# Altium integrated library TI Data Converters Analog to Digital Converter.IntLib: 2197 symbols (part 141 of 168)
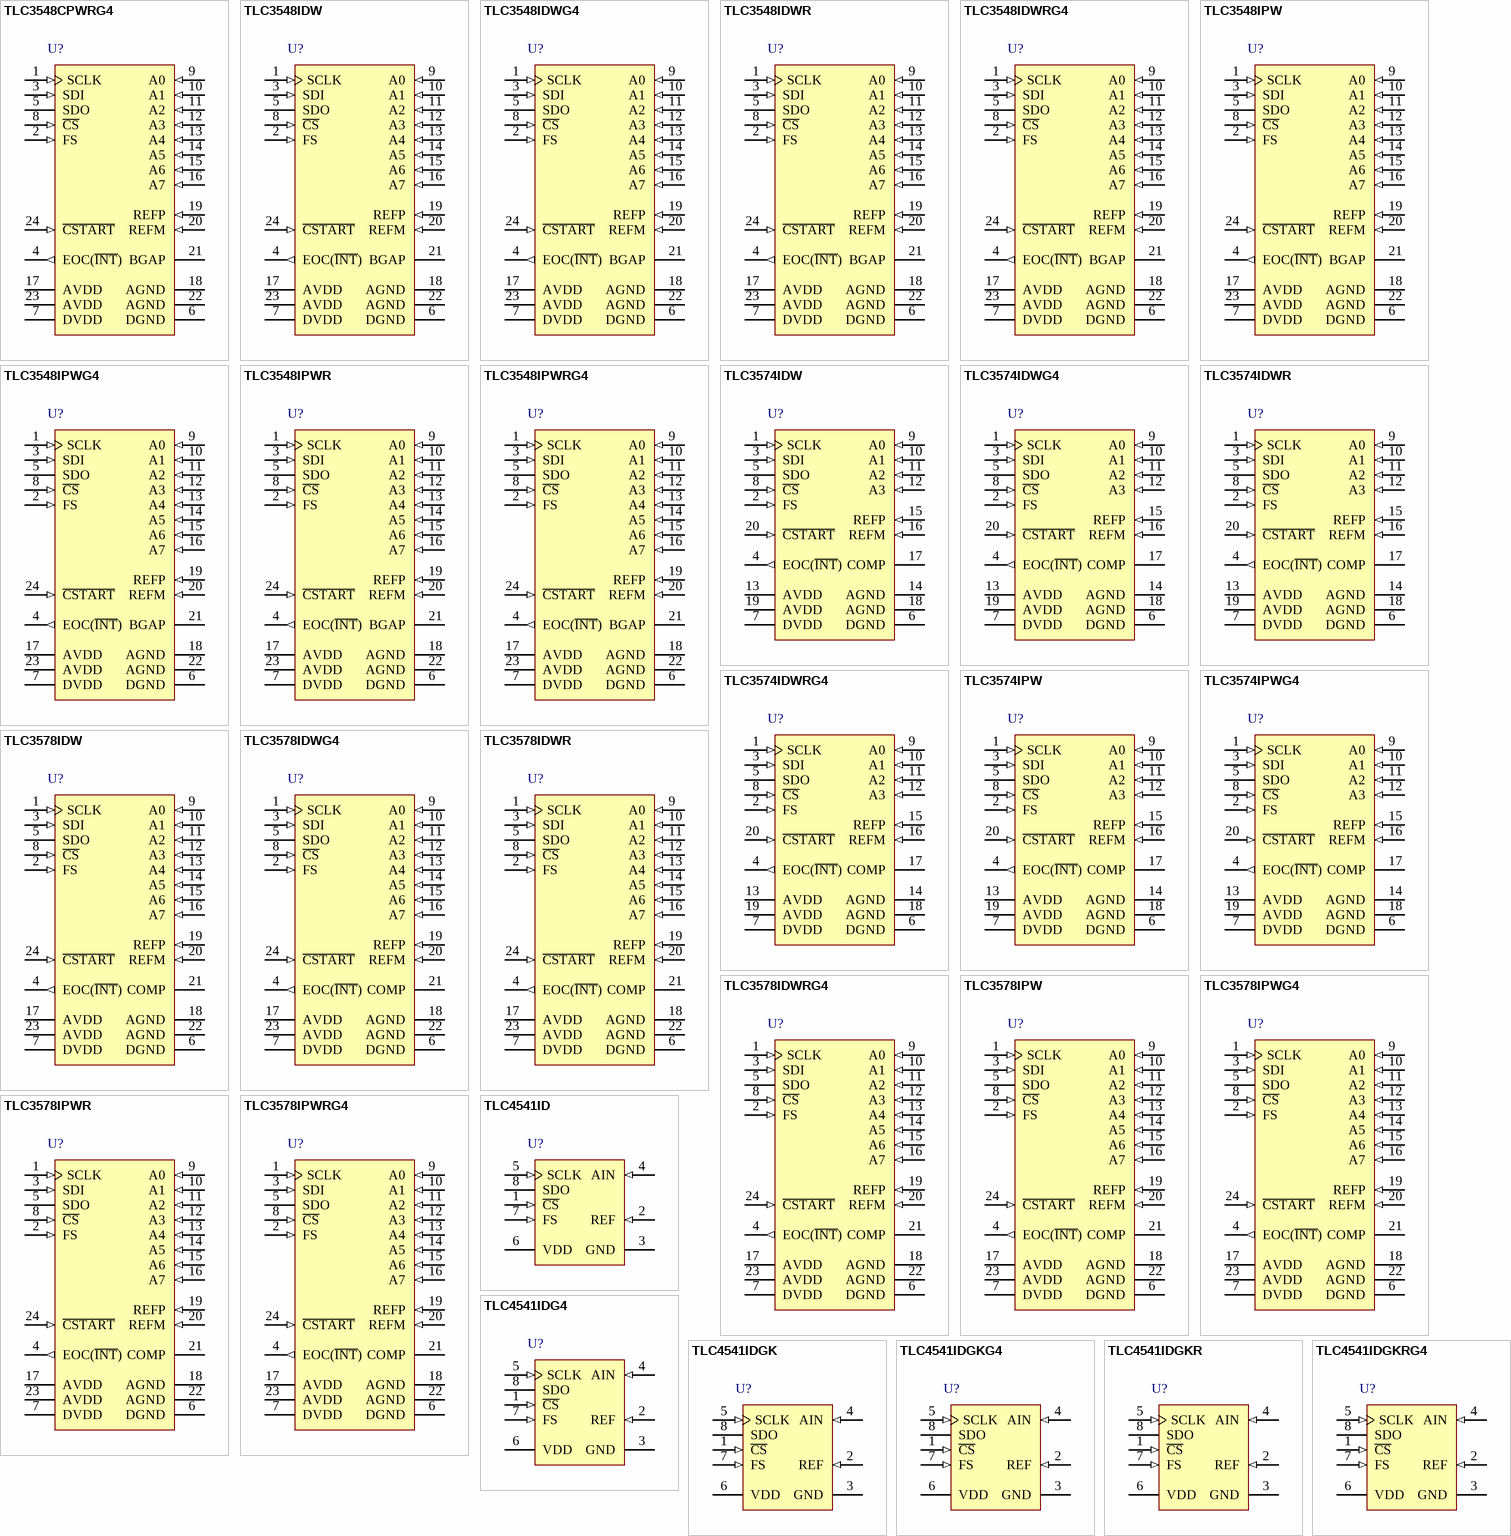
[diagram p266: symbols TLC3548CPWRG4 to TLC4541IDGKRG4]

## TLC3548CPWRG4
designator U?
14-Bit, 5 V, 200 kSPS, 8-Channel Unipolar ADC, 0 to 70 degC, 24-pin SOP (PW24), Green (RoHS & no Sb/Br); Manufacturer: Texas Instruments; PartNumber: TLC3548CPWRG4; # Input Channels: 8; Analog Voltage AV/DD(Max)(V): 5.5; Analog Voltage AV/DD(Min)(V): 4.5; Architecture: SAR; Digital Supply(Min)(V): 2.7; ENOB(Bits): 13.1; INL(Max)(+/-LSB): 1; Interface: Serial SPI; Resolution(Bits): 14; Sample Rate (max)(SPS): 200k; SFDR(dB): 97; SINAD(dB): 80.8; SNR(dB): 81; SubFamily: Precision ADC (<=10MSPS); DatasheetVersion: SLAS266C; PackageVersion: 4040064-6/G, 02/2011; PackageReference: PW24; PackageDescription: 24-Pin Plastic Small Outline, Body 7.8 x 4.4 mm, Pitch 0.65 mm; Supplier 1: Digi-Key; Supplier Part Number 1: TLC0838CPW-ND; Supplier 2: Mouser; Supplier Part Number 2: 595-TLC0838CPW; Digital Supply(Max)(V): 5.5; Eco-Plan: Green (RoHS & no Sb/Br); Mounting Technology: Surface Mount; Code_JEDEC: MO-153; ComponentLink1Description: Manufacturer URL; ComponentLink1URL: http://www.ti.com/; ComponentLink2Description: Datasheet; ComponentLink2URL: http://www.ti.com/general/docs/lit/getliterature.tsp?genericPartNumber=TLC3548&fileType=pdf; ComponentLink3Description: Package Specification; ComponentLink3URL: http://www.ti.com/litv/pdf/mpds363
footprint TI-PW24_N (SOP, 24-Leads, Body 7.8x4.4mm, Pitch 0.65mm, IPC Medium Density)
footprint TI-PW24_L (SOP, 24-Leads, Body 7.8x4.4mm, Pitch 0.65mm, IPC High Density)
footprint TI-PW24_M (SOP, 24-Leads, Body 7.8x4.4mm, Pitch 0.65mm, IPC Low Density)
pins: 1 SCLK (in) "Serial clock input from the host processor to clock in the input from SDI and clock out the output via SDO. It can also be used as the conversion clock source when the external conversion clock is selected (see Table 2). (See Datasheet)", 2 FS (in) "Frame sync input from DSP. The rising edge of FS indicates the start of a serial data frame being transferred (coming into or being sent out of the device). If FS is low at the falling edge of C\S\, the rising edge of FS (See Datasheet)", 3 SDI (in) "Serial data input. The first 4 MSBs, ID[15:12], are decoded as one 4-bit command. All trailing bits,except for the CONFIGURE WRITE command, are filled with zeros. The CONFIGURE WRITE command requires additional 12-bit data. (See Datasheet)", 4 EOC(~{INT}) (out) "End of conversion (EOC) or interrupt to host processor (I\N\T\) EOC: used in conversion mode 00 only. EOC goes from high to low at the end of the sampling and remains low until the conversion is complete and data is ready.(See Datasheet)", 5 SDO (hiz) "The 3-state serial output for the A/D conversion result. All data bits are shifted out through SDO.SDO is in the high-impedance state when C\S\ is high. SDO is released after a C\S\ falling edge. The output format is MSB (See Datasheet)", 6 DGND (power) "Digital ground return for the internal circuitry", 7 DVDD (power) "Digital supply voltage", 8 ~{CS} (in) "Chip select. When C\S\ is high, SDO is in high-impedance state, SDI is ignored, and SCLK is disabled to clock data but works as conversion clock source if programmed. The falling edge of C\S\ input resets the internal 4-bit (See Datasheet)", 9 A0 (in) "Analog signal inputs. Analog input signals applied to these terminals are internally multiplexed. The driving source impedance should be less than or equal to 1 kO for normal sampling. For larger source impedance, use the (See Datasheet)", 10 A1 (in) "Analog signal inputs. Analog input signals applied to these terminals are internally multiplexed. The driving source impedance should be less than or equal to 1 kO for normal sampling. For larger source impedance, use the (See Datasheet)", 11 A2 (in) "Analog signal inputs. Analog input signals applied to these terminals are internally multiplexed. The driving source impedance should be less than or equal to 1 kO for normal sampling. For larger source impedance, use the (See Datasheet)", 12 A3 (in) "Analog signal inputs. Analog input signals applied to these terminals are internally multiplexed. The driving source impedance should be less than or equal to 1 kO for normal sampling. For larger source impedance, use the (See Datasheet)", 13 A4 (in) "Analog signal inputs. Analog input signals applied to these terminals are internally multiplexed. The driving source impedance should be less than or equal to 1 kO for normal sampling. For larger source impedance, use the (See Datasheet)", 14 A5 (in) "Analog signal inputs. Analog input signals applied to these terminals are internally multiplexed. The driving source impedance should be less than or equal to 1 kO for normal sampling. For larger source impedance, use the (See Datasheet)", 15 A6 (in) "Analog signal inputs. Analog input signals applied to these terminals are internally multiplexed. The driving source impedance should be less than or equal to 1 kO for normal sampling. For larger source impedance, use the (See Datasheet)", 16 A7 (in) "Analog signal inputs. Analog input signals applied to these terminals are internally multiplexed. The driving source impedance should be less than or equal to 1 kO for normal sampling. For larger source impedance, use the (See Datasheet)", 17 AVDD (power) "Analog supply voltage", 18 AGND (power) "Analog ground return for the internal circuitry. Unless otherwise noted, all analog voltage measurements are with respect to AGND.", 19 REFP (in) "External positive reference input. When an external reference is used, the range of maximum input voltage is determined by the difference between the voltage applied to this terminal and to the REFM terminal. Always install (See Datasheet)", 20 REFM (in) "External low reference input. Connect REFM to AGND.", 21 BGAP "Internal bandgap compensation pin. Install compensation capacitors between BGAP and AGND.0.1 uF for external reference; 10 uF in parallel with 0.1 uF for internal reference.", 22 AGND (power) "Analog ground return for the internal circuitry. Unless otherwise noted, all analog voltage measurements are with respect to AGND.", 23 AVDD (power) "Analog supply voltage", 24 ~{CSTART} (in) "External sampling trigger signal, which initiates the sampling from a selected analog input channel when the device works in extended sampling mode (asynchronous sampling). A high-to-low transition starts the sampling of the (See Datasheet)"

## TLC3548IDW
designator U?
14-Bit, 5 V, 200 kSPS, 8-Channel Unipolar ADC, -40 to 85 degC, 24-pin SOIC (DW24), Green (RoHS & no Sb/Br); Manufacturer: Texas Instruments; PartNumber: TLC3548IDW; # Input Channels: 8; Analog Voltage AV/DD(Max)(V): 5.5; Analog Voltage AV/DD(Min)(V): 4.5; Architecture: SAR; Digital Supply(Min)(V): 2.7; ENOB(Bits): 13.1; INL(Max)(+/-LSB): 1; Interface: Serial SPI; Resolution(Bits): 14; Sample Rate (max)(SPS): 200k; SFDR(dB): 97; SINAD(dB): 80.8; SNR(dB): 81; SubFamily: Precision ADC (<=10MSPS); DatasheetVersion: SLAS266C; PackageVersion: 4040000-5/G, 01/2011; PackageReference: DW24; PackageDescription: 24-Pin Plastic Small Outline, Body 15.4 x 7.5 mm, Pitch 1.27 mm; Supplier 1: Digi-Key; Supplier Part Number 1: TLC0838CPWG4-ND; Supplier 2: Mouser; Supplier Part Number 2: 595-TLC0838CPWG4; Digital Supply(Max)(V): 5.5; Eco-Plan: Green (RoHS & no Sb/Br); Mounting Technology: Surface Mount; Code_JEDEC: MS-013; ComponentLink1Description: Manufacturer URL; ComponentLink1URL: http://www.ti.com/; ComponentLink2Description: Datasheet; ComponentLink2URL: http://www.ti.com/general/docs/lit/getliterature.tsp?genericPartNumber=TLC3548&fileType=pdf; ComponentLink3Description: Package Specification; ComponentLink3URL: http://www.ti.com/litv/pdf/mpds174a
footprint TI-DW24_N (SOIC, 24-Leads, Body 15.4x7.5mm, Pitch 1.27mm, IPC Medium Density)
footprint TI-DW24_L (SOIC, 24-Leads, Body 15.4x7.5mm, Pitch 1.27mm, IPC High Density)
footprint TI-DW24_M (SOIC, 24-Leads, Body 15.4x7.5mm, Pitch 1.27mm, IPC Low Density)
pins: 1 SCLK (in) "Serial clock input from the host processor to clock in the input from SDI and clock out the output via SDO. It can also be used as the conversion clock source when the external conversion clock is selected (see Table 2). (See Datasheet)", 2 FS (in) "Frame sync input from DSP. The rising edge of FS indicates the start of a serial data frame being transferred (coming into or being sent out of the device). If FS is low at the falling edge of C\S\, the rising edge of FS (See Datasheet)", 3 SDI (in) "Serial data input. The first 4 MSBs, ID[15:12], are decoded as one 4-bit command. All trailing bits,except for the CONFIGURE WRITE command, are filled with zeros. The CONFIGURE WRITE command requires additional 12-bit data. (See Datasheet)", 4 EOC(~{INT}) (out) "End of conversion (EOC) or interrupt to host processor (I\N\T\) EOC: used in conversion mode 00 only. EOC goes from high to low at the end of the sampling and remains low until the conversion is complete and data is ready.(See Datasheet)", 5 SDO (hiz) "The 3-state serial output for the A/D conversion result. All data bits are shifted out through SDO.SDO is in the high-impedance state when C\S\ is high. SDO is released after a C\S\ falling edge. The output format is MSB (See Datasheet)", 6 DGND (power) "Digital ground return for the internal circuitry", 7 DVDD (power) "Digital supply voltage", 8 ~{CS} (in) "Chip select. When C\S\ is high, SDO is in high-impedance state, SDI is ignored, and SCLK is disabled to clock data but works as conversion clock source if programmed. The falling edge of C\S\ input resets the internal 4-bit (See Datasheet)", 9 A0 (in) "Analog signal inputs. Analog input signals applied to these terminals are internally multiplexed. The driving source impedance should be less than or equal to 1 kO for normal sampling. For larger source impedance, use the (See Datasheet)", 10 A1 (in) "Analog signal inputs. Analog input signals applied to these terminals are internally multiplexed. The driving source impedance should be less than or equal to 1 kO for normal sampling. For larger source impedance, use the (See Datasheet)", 11 A2 (in) "Analog signal inputs. Analog input signals applied to these terminals are internally multiplexed. The driving source impedance should be less than or equal to 1 kO for normal sampling. For larger source impedance, use the (See Datasheet)", 12 A3 (in) "Analog signal inputs. Analog input signals applied to these terminals are internally multiplexed. The driving source impedance should be less than or equal to 1 kO for normal sampling. For larger source impedance, use the (See Datasheet)", 13 A4 (in) "Analog signal inputs. Analog input signals applied to these terminals are internally multiplexed. The driving source impedance should be less than or equal to 1 kO for normal sampling. For larger source impedance, use the (See Datasheet)", 14 A5 (in) "Analog signal inputs. Analog input signals applied to these terminals are internally multiplexed. The driving source impedance should be less than or equal to 1 kO for normal sampling. For larger source impedance, use the (See Datasheet)", 15 A6 (in) "Analog signal inputs. Analog input signals applied to these terminals are internally multiplexed. The driving source impedance should be less than or equal to 1 kO for normal sampling. For larger source impedance, use the (See Datasheet)", 16 A7 (in) "Analog signal inputs. Analog input signals applied to these terminals are internally multiplexed. The driving source impedance should be less than or equal to 1 kO for normal sampling. For larger source impedance, use the (See Datasheet)", 17 AVDD (power) "Analog supply voltage", 18 AGND (power) "Analog ground return for the internal circuitry. Unless otherwise noted, all analog voltage measurements are with respect to AGND.", 19 REFP (in) "External positive reference input. When an external reference is used, the range of maximum input voltage is determined by the difference between the voltage applied to this terminal and to the REFM terminal. Always install (See Datasheet)", 20 REFM (in) "External low reference input. Connect REFM to AGND.", 21 BGAP "Internal bandgap compensation pin. Install compensation capacitors between BGAP and AGND.0.1 uF for external reference; 10 uF in parallel with 0.1 uF for internal reference.", 22 AGND (power) "Analog ground return for the internal circuitry. Unless otherwise noted, all analog voltage measurements are with respect to AGND.", 23 AVDD (power) "Analog supply voltage", 24 ~{CSTART} (in) "External sampling trigger signal, which initiates the sampling from a selected analog input channel when the device works in extended sampling mode (asynchronous sampling). A high-to-low transition starts the sampling of the (See Datasheet)"

## TLC3548IDWG4
designator U?
14-Bit, 5 V, 200 kSPS, 8-Channel Unipolar ADC, -40 to 85 degC, 24-pin SOIC (DW24), Green (RoHS & no Sb/Br); Manufacturer: Texas Instruments; PartNumber: TLC3548IDWG4; # Input Channels: 8; Analog Voltage AV/DD(Max)(V): 5.5; Analog Voltage AV/DD(Min)(V): 4.5; Architecture: SAR; Digital Supply(Min)(V): 2.7; ENOB(Bits): 13.1; INL(Max)(+/-LSB): 1; Interface: Serial SPI; Resolution(Bits): 14; Sample Rate (max)(SPS): 200k; SFDR(dB): 97; SINAD(dB): 80.8; SNR(dB): 81; SubFamily: Precision ADC (<=10MSPS); DatasheetVersion: SLAS266C; PackageVersion: 4040000-5/G, 01/2011; PackageReference: DW24; PackageDescription: 24-Pin Plastic Small Outline, Body 15.4 x 7.5 mm, Pitch 1.27 mm; Supplier 1: Digi-Key; Supplier Part Number 1: TLC0838CPWR-ND; Supplier 2: Mouser; Supplier Part Number 2: 595-TLC0838CPWR; Digital Supply(Max)(V): 5.5; Eco-Plan: Green (RoHS & no Sb/Br); Mounting Technology: Surface Mount; Code_JEDEC: MS-013; ComponentLink1Description: Manufacturer URL; ComponentLink1URL: http://www.ti.com/; ComponentLink2Description: Datasheet; ComponentLink2URL: http://www.ti.com/general/docs/lit/getliterature.tsp?genericPartNumber=TLC3548&fileType=pdf; ComponentLink3Description: Package Specification; ComponentLink3URL: http://www.ti.com/litv/pdf/mpds174a
footprint TI-DW24_N (SOIC, 24-Leads, Body 15.4x7.5mm, Pitch 1.27mm, IPC Medium Density)
footprint TI-DW24_L (SOIC, 24-Leads, Body 15.4x7.5mm, Pitch 1.27mm, IPC High Density)
footprint TI-DW24_M (SOIC, 24-Leads, Body 15.4x7.5mm, Pitch 1.27mm, IPC Low Density)
pins: 1 SCLK (in) "Serial clock input from the host processor to clock in the input from SDI and clock out the output via SDO. It can also be used as the conversion clock source when the external conversion clock is selected (see Table 2). (See Datasheet)", 2 FS (in) "Frame sync input from DSP. The rising edge of FS indicates the start of a serial data frame being transferred (coming into or being sent out of the device). If FS is low at the falling edge of C\S\, the rising edge of FS (See Datasheet)", 3 SDI (in) "Serial data input. The first 4 MSBs, ID[15:12], are decoded as one 4-bit command. All trailing bits,except for the CONFIGURE WRITE command, are filled with zeros. The CONFIGURE WRITE command requires additional 12-bit data. (See Datasheet)", 4 EOC(~{INT}) (out) "End of conversion (EOC) or interrupt to host processor (I\N\T\) EOC: used in conversion mode 00 only. EOC goes from high to low at the end of the sampling and remains low until the conversion is complete and data is ready.(See Datasheet)", 5 SDO (hiz) "The 3-state serial output for the A/D conversion result. All data bits are shifted out through SDO.SDO is in the high-impedance state when C\S\ is high. SDO is released after a C\S\ falling edge. The output format is MSB (See Datasheet)", 6 DGND (power) "Digital ground return for the internal circuitry", 7 DVDD (power) "Digital supply voltage", 8 ~{CS} (in) "Chip select. When C\S\ is high, SDO is in high-impedance state, SDI is ignored, and SCLK is disabled to clock data but works as conversion clock source if programmed. The falling edge of C\S\ input resets the internal 4-bit (See Datasheet)", 9 A0 (in) "Analog signal inputs. Analog input signals applied to these terminals are internally multiplexed. The driving source impedance should be less than or equal to 1 kO for normal sampling. For larger source impedance, use the (See Datasheet)", 10 A1 (in) "Analog signal inputs. Analog input signals applied to these terminals are internally multiplexed. The driving source impedance should be less than or equal to 1 kO for normal sampling. For larger source impedance, use the (See Datasheet)", 11 A2 (in) "Analog signal inputs. Analog input signals applied to these terminals are internally multiplexed. The driving source impedance should be less than or equal to 1 kO for normal sampling. For larger source impedance, use the (See Datasheet)", 12 A3 (in) "Analog signal inputs. Analog input signals applied to these terminals are internally multiplexed. The driving source impedance should be less than or equal to 1 kO for normal sampling. For larger source impedance, use the (See Datasheet)", 13 A4 (in) "Analog signal inputs. Analog input signals applied to these terminals are internally multiplexed. The driving source impedance should be less than or equal to 1 kO for normal sampling. For larger source impedance, use the (See Datasheet)", 14 A5 (in) "Analog signal inputs. Analog input signals applied to these terminals are internally multiplexed. The driving source impedance should be less than or equal to 1 kO for normal sampling. For larger source impedance, use the (See Datasheet)", 15 A6 (in) "Analog signal inputs. Analog input signals applied to these terminals are internally multiplexed. The driving source impedance should be less than or equal to 1 kO for normal sampling. For larger source impedance, use the (See Datasheet)", 16 A7 (in) "Analog signal inputs. Analog input signals applied to these terminals are internally multiplexed. The driving source impedance should be less than or equal to 1 kO for normal sampling. For larger source impedance, use the (See Datasheet)", 17 AVDD (power) "Analog supply voltage", 18 AGND (power) "Analog ground return for the internal circuitry. Unless otherwise noted, all analog voltage measurements are with respect to AGND.", 19 REFP (in) "External positive reference input. When an external reference is used, the range of maximum input voltage is determined by the difference between the voltage applied to this terminal and to the REFM terminal. Always install (See Datasheet)", 20 REFM (in) "External low reference input. Connect REFM to AGND.", 21 BGAP "Internal bandgap compensation pin. Install compensation capacitors between BGAP and AGND.0.1 uF for external reference; 10 uF in parallel with 0.1 uF for internal reference.", 22 AGND (power) "Analog ground return for the internal circuitry. Unless otherwise noted, all analog voltage measurements are with respect to AGND.", 23 AVDD (power) "Analog supply voltage", 24 ~{CSTART} (in) "External sampling trigger signal, which initiates the sampling from a selected analog input channel when the device works in extended sampling mode (asynchronous sampling). A high-to-low transition starts the sampling of the (See Datasheet)"

## TLC3548IDWR
designator U?
14-Bit, 5 V, 200 kSPS, 8-Channel Unipolar ADC, -40 to 85 degC, 24-pin SOIC (DW24), Green (RoHS & no Sb/Br); Manufacturer: Texas Instruments; PartNumber: TLC3548IDWR; # Input Channels: 8; Analog Voltage AV/DD(Max)(V): 5.5; Analog Voltage AV/DD(Min)(V): 4.5; Architecture: SAR; Digital Supply(Min)(V): 2.7; ENOB(Bits): 13.1; INL(Max)(+/-LSB): 1; Interface: Serial SPI; Resolution(Bits): 14; Sample Rate (max)(SPS): 200k; SFDR(dB): 97; SINAD(dB): 80.8; SNR(dB): 81; SubFamily: Precision ADC (<=10MSPS); DatasheetVersion: SLAS266C; PackageVersion: 4040000-5/G, 01/2011; PackageReference: DW24; PackageDescription: 24-Pin Plastic Small Outline, Body 15.4 x 7.5 mm, Pitch 1.27 mm; Supplier 1: Digi-Key; Supplier Part Number 1: TLC0838CPWRG4-ND; Supplier 2: Mouser; Supplier Part Number 2: 595-TLC0838CPWRG4; Digital Supply(Max)(V): 5.5; Eco-Plan: Green (RoHS & no Sb/Br); Mounting Technology: Surface Mount; Code_JEDEC: MS-013; ComponentLink1Description: Manufacturer URL; ComponentLink1URL: http://www.ti.com/; ComponentLink2Description: Datasheet; ComponentLink2URL: http://www.ti.com/general/docs/lit/getliterature.tsp?genericPartNumber=TLC3548&fileType=pdf; ComponentLink3Description: Package Specification; ComponentLink3URL: http://www.ti.com/litv/pdf/mpds174a
footprint TI-DW24_N (SOIC, 24-Leads, Body 15.4x7.5mm, Pitch 1.27mm, IPC Medium Density)
footprint TI-DW24_L (SOIC, 24-Leads, Body 15.4x7.5mm, Pitch 1.27mm, IPC High Density)
footprint TI-DW24_M (SOIC, 24-Leads, Body 15.4x7.5mm, Pitch 1.27mm, IPC Low Density)
pins: 1 SCLK (in) "Serial clock input from the host processor to clock in the input from SDI and clock out the output via SDO. It can also be used as the conversion clock source when the external conversion clock is selected (see Table 2). (See Datasheet)", 2 FS (in) "Frame sync input from DSP. The rising edge of FS indicates the start of a serial data frame being transferred (coming into or being sent out of the device). If FS is low at the falling edge of C\S\, the rising edge of FS (See Datasheet)", 3 SDI (in) "Serial data input. The first 4 MSBs, ID[15:12], are decoded as one 4-bit command. All trailing bits,except for the CONFIGURE WRITE command, are filled with zeros. The CONFIGURE WRITE command requires additional 12-bit data. (See Datasheet)", 4 EOC(~{INT}) (out) "End of conversion (EOC) or interrupt to host processor (I\N\T\) EOC: used in conversion mode 00 only. EOC goes from high to low at the end of the sampling and remains low until the conversion is complete and data is ready.(See Datasheet)", 5 SDO (hiz) "The 3-state serial output for the A/D conversion result. All data bits are shifted out through SDO.SDO is in the high-impedance state when C\S\ is high. SDO is released after a C\S\ falling edge. The output format is MSB (See Datasheet)", 6 DGND (power) "Digital ground return for the internal circuitry", 7 DVDD (power) "Digital supply voltage", 8 ~{CS} (in) "Chip select. When C\S\ is high, SDO is in high-impedance state, SDI is ignored, and SCLK is disabled to clock data but works as conversion clock source if programmed. The falling edge of C\S\ input resets the internal 4-bit (See Datasheet)", 9 A0 (in) "Analog signal inputs. Analog input signals applied to these terminals are internally multiplexed. The driving source impedance should be less than or equal to 1 kO for normal sampling. For larger source impedance, use the (See Datasheet)", 10 A1 (in) "Analog signal inputs. Analog input signals applied to these terminals are internally multiplexed. The driving source impedance should be less than or equal to 1 kO for normal sampling. For larger source impedance, use the (See Datasheet)", 11 A2 (in) "Analog signal inputs. Analog input signals applied to these terminals are internally multiplexed. The driving source impedance should be less than or equal to 1 kO for normal sampling. For larger source impedance, use the (See Datasheet)", 12 A3 (in) "Analog signal inputs. Analog input signals applied to these terminals are internally multiplexed. The driving source impedance should be less than or equal to 1 kO for normal sampling. For larger source impedance, use the (See Datasheet)", 13 A4 (in) "Analog signal inputs. Analog input signals applied to these terminals are internally multiplexed. The driving source impedance should be less than or equal to 1 kO for normal sampling. For larger source impedance, use the (See Datasheet)", 14 A5 (in) "Analog signal inputs. Analog input signals applied to these terminals are internally multiplexed. The driving source impedance should be less than or equal to 1 kO for normal sampling. For larger source impedance, use the (See Datasheet)", 15 A6 (in) "Analog signal inputs. Analog input signals applied to these terminals are internally multiplexed. The driving source impedance should be less than or equal to 1 kO for normal sampling. For larger source impedance, use the (See Datasheet)", 16 A7 (in) "Analog signal inputs. Analog input signals applied to these terminals are internally multiplexed. The driving source impedance should be less than or equal to 1 kO for normal sampling. For larger source impedance, use the (See Datasheet)", 17 AVDD (power) "Analog supply voltage", 18 AGND (power) "Analog ground return for the internal circuitry. Unless otherwise noted, all analog voltage measurements are with respect to AGND.", 19 REFP (in) "External positive reference input. When an external reference is used, the range of maximum input voltage is determined by the difference between the voltage applied to this terminal and to the REFM terminal. Always install (See Datasheet)", 20 REFM (in) "External low reference input. Connect REFM to AGND.", 21 BGAP "Internal bandgap compensation pin. Install compensation capacitors between BGAP and AGND.0.1 uF for external reference; 10 uF in parallel with 0.1 uF for internal reference.", 22 AGND (power) "Analog ground return for the internal circuitry. Unless otherwise noted, all analog voltage measurements are with respect to AGND.", 23 AVDD (power) "Analog supply voltage", 24 ~{CSTART} (in) "External sampling trigger signal, which initiates the sampling from a selected analog input channel when the device works in extended sampling mode (asynchronous sampling). A high-to-low transition starts the sampling of the (See Datasheet)"

## TLC3548IDWRG4
designator U?
14-Bit, 5 V, 200 kSPS, 8-Channel Unipolar ADC, -40 to 85 degC, 24-pin SOIC (DW24), Green (RoHS & no Sb/Br); Manufacturer: Texas Instruments; PartNumber: TLC3548IDWRG4; # Input Channels: 8; Analog Voltage AV/DD(Max)(V): 5.5; Analog Voltage AV/DD(Min)(V): 4.5; Architecture: SAR; Digital Supply(Min)(V): 2.7; ENOB(Bits): 13.1; INL(Max)(+/-LSB): 1; Interface: Serial SPI; Resolution(Bits): 14; Sample Rate (max)(SPS): 200k; SFDR(dB): 97; SINAD(dB): 80.8; SNR(dB): 81; SubFamily: Precision ADC (<=10MSPS); DatasheetVersion: SLAS266C; PackageVersion: 4040000-5/G, 01/2011; PackageReference: DW24; PackageDescription: 24-Pin Plastic Small Outline, Body 15.4 x 7.5 mm, Pitch 1.27 mm; Supplier 1: Digi-Key; Supplier Part Number 1: 296-2867-5-ND; Supplier 2: Farnell; Supplier Part Number 2: 1459331; Supplier 3: Newark; Supplier Part Number 3: 62M0392; Supplier 4: Newark; Supplier Part Number 4: 90B1002; Supplier 5: Mouser; Supplier Part Number 5: 595-TLC0838IDW; Digital Supply(Max)(V): 5.5; Eco-Plan: Green (RoHS & no Sb/Br); Mounting Technology: Surface Mount; Code_JEDEC: MS-013; ComponentLink1Description: Manufacturer URL; ComponentLink1URL: http://www.ti.com/; ComponentLink2Description: Datasheet; ComponentLink2URL: http://www.ti.com/general/docs/lit/getliterature.tsp?genericPartNumber=TLC3548&fileType=pdf; ComponentLink3Description: Package Specification; ComponentLink3URL: http://www.ti.com/litv/pdf/mpds174a
footprint TI-DW24_N (SOIC, 24-Leads, Body 15.4x7.5mm, Pitch 1.27mm, IPC Medium Density)
footprint TI-DW24_L (SOIC, 24-Leads, Body 15.4x7.5mm, Pitch 1.27mm, IPC High Density)
footprint TI-DW24_M (SOIC, 24-Leads, Body 15.4x7.5mm, Pitch 1.27mm, IPC Low Density)
pins: 1 SCLK (in) "Serial clock input from the host processor to clock in the input from SDI and clock out the output via SDO. It can also be used as the conversion clock source when the external conversion clock is selected (see Table 2). (See Datasheet)", 2 FS (in) "Frame sync input from DSP. The rising edge of FS indicates the start of a serial data frame being transferred (coming into or being sent out of the device). If FS is low at the falling edge of C\S\, the rising edge of FS (See Datasheet)", 3 SDI (in) "Serial data input. The first 4 MSBs, ID[15:12], are decoded as one 4-bit command. All trailing bits,except for the CONFIGURE WRITE command, are filled with zeros. The CONFIGURE WRITE command requires additional 12-bit data. (See Datasheet)", 4 EOC(~{INT}) (out) "End of conversion (EOC) or interrupt to host processor (I\N\T\) EOC: used in conversion mode 00 only. EOC goes from high to low at the end of the sampling and remains low until the conversion is complete and data is ready.(See Datasheet)", 5 SDO (hiz) "The 3-state serial output for the A/D conversion result. All data bits are shifted out through SDO.SDO is in the high-impedance state when C\S\ is high. SDO is released after a C\S\ falling edge. The output format is MSB (See Datasheet)", 6 DGND (power) "Digital ground return for the internal circuitry", 7 DVDD (power) "Digital supply voltage", 8 ~{CS} (in) "Chip select. When C\S\ is high, SDO is in high-impedance state, SDI is ignored, and SCLK is disabled to clock data but works as conversion clock source if programmed. The falling edge of C\S\ input resets the internal 4-bit (See Datasheet)", 9 A0 (in) "Analog signal inputs. Analog input signals applied to these terminals are internally multiplexed. The driving source impedance should be less than or equal to 1 kO for normal sampling. For larger source impedance, use the (See Datasheet)", 10 A1 (in) "Analog signal inputs. Analog input signals applied to these terminals are internally multiplexed. The driving source impedance should be less than or equal to 1 kO for normal sampling. For larger source impedance, use the (See Datasheet)", 11 A2 (in) "Analog signal inputs. Analog input signals applied to these terminals are internally multiplexed. The driving source impedance should be less than or equal to 1 kO for normal sampling. For larger source impedance, use the (See Datasheet)", 12 A3 (in) "Analog signal inputs. Analog input signals applied to these terminals are internally multiplexed. The driving source impedance should be less than or equal to 1 kO for normal sampling. For larger source impedance, use the (See Datasheet)", 13 A4 (in) "Analog signal inputs. Analog input signals applied to these terminals are internally multiplexed. The driving source impedance should be less than or equal to 1 kO for normal sampling. For larger source impedance, use the (See Datasheet)", 14 A5 (in) "Analog signal inputs. Analog input signals applied to these terminals are internally multiplexed. The driving source impedance should be less than or equal to 1 kO for normal sampling. For larger source impedance, use the (See Datasheet)", 15 A6 (in) "Analog signal inputs. Analog input signals applied to these terminals are internally multiplexed. The driving source impedance should be less than or equal to 1 kO for normal sampling. For larger source impedance, use the (See Datasheet)", 16 A7 (in) "Analog signal inputs. Analog input signals applied to these terminals are internally multiplexed. The driving source impedance should be less than or equal to 1 kO for normal sampling. For larger source impedance, use the (See Datasheet)", 17 AVDD (power) "Analog supply voltage", 18 AGND (power) "Analog ground return for the internal circuitry. Unless otherwise noted, all analog voltage measurements are with respect to AGND.", 19 REFP (in) "External positive reference input. When an external reference is used, the range of maximum input voltage is determined by the difference between the voltage applied to this terminal and to the REFM terminal. Always install (See Datasheet)", 20 REFM (in) "External low reference input. Connect REFM to AGND.", 21 BGAP "Internal bandgap compensation pin. Install compensation capacitors between BGAP and AGND.0.1 uF for external reference; 10 uF in parallel with 0.1 uF for internal reference.", 22 AGND (power) "Analog ground return for the internal circuitry. Unless otherwise noted, all analog voltage measurements are with respect to AGND.", 23 AVDD (power) "Analog supply voltage", 24 ~{CSTART} (in) "External sampling trigger signal, which initiates the sampling from a selected analog input channel when the device works in extended sampling mode (asynchronous sampling). A high-to-low transition starts the sampling of the (See Datasheet)"

## TLC3548IPW
designator U?
14-Bit, 5 V, 200 kSPS, 8-Channel Unipolar ADC, -40 to 85 degC, 24-pin SOP (PW24), Green (RoHS & no Sb/Br); Manufacturer: Texas Instruments; PartNumber: TLC3548IPW; # Input Channels: 8; Analog Voltage AV/DD(Max)(V): 5.5; Analog Voltage AV/DD(Min)(V): 4.5; Architecture: SAR; Digital Supply(Min)(V): 2.7; ENOB(Bits): 13.1; INL(Max)(+/-LSB): 1; Interface: Serial SPI; Resolution(Bits): 14; Sample Rate (max)(SPS): 200k; SFDR(dB): 97; SINAD(dB): 80.8; SNR(dB): 81; SubFamily: Precision ADC (<=10MSPS); DatasheetVersion: SLAS266C; PackageVersion: 4040064-6/G, 02/2011; PackageReference: PW24; PackageDescription: 24-Pin Plastic Small Outline, Body 7.8 x 4.4 mm, Pitch 0.65 mm; Supplier 1: Digi-Key; Supplier Part Number 1: TLC0838IDWG4-ND; Supplier 2: Mouser; Supplier Part Number 2: 595-TLC0838IDWG4; Digital Supply(Max)(V): 5.5; Eco-Plan: Green (RoHS & no Sb/Br); Mounting Technology: Surface Mount; Code_JEDEC: MO-153; ComponentLink1Description: Manufacturer URL; ComponentLink1URL: http://www.ti.com/; ComponentLink2Description: Datasheet; ComponentLink2URL: http://www.ti.com/general/docs/lit/getliterature.tsp?genericPartNumber=TLC3548&fileType=pdf; ComponentLink3Description: Package Specification; ComponentLink3URL: http://www.ti.com/litv/pdf/mpds363
footprint TI-PW24_N (SOP, 24-Leads, Body 7.8x4.4mm, Pitch 0.65mm, IPC Medium Density)
footprint TI-PW24_L (SOP, 24-Leads, Body 7.8x4.4mm, Pitch 0.65mm, IPC High Density)
footprint TI-PW24_M (SOP, 24-Leads, Body 7.8x4.4mm, Pitch 0.65mm, IPC Low Density)
pins: 1 SCLK (in) "Serial clock input from the host processor to clock in the input from SDI and clock out the output via SDO. It can also be used as the conversion clock source when the external conversion clock is selected (see Table 2). (See Datasheet)", 2 FS (in) "Frame sync input from DSP. The rising edge of FS indicates the start of a serial data frame being transferred (coming into or being sent out of the device). If FS is low at the falling edge of C\S\, the rising edge of FS (See Datasheet)", 3 SDI (in) "Serial data input. The first 4 MSBs, ID[15:12], are decoded as one 4-bit command. All trailing bits,except for the CONFIGURE WRITE command, are filled with zeros. The CONFIGURE WRITE command requires additional 12-bit data. (See Datasheet)", 4 EOC(~{INT}) (out) "End of conversion (EOC) or interrupt to host processor (I\N\T\) EOC: used in conversion mode 00 only. EOC goes from high to low at the end of the sampling and remains low until the conversion is complete and data is ready.(See Datasheet)", 5 SDO (hiz) "The 3-state serial output for the A/D conversion result. All data bits are shifted out through SDO.SDO is in the high-impedance state when C\S\ is high. SDO is released after a C\S\ falling edge. The output format is MSB (See Datasheet)", 6 DGND (power) "Digital ground return for the internal circuitry", 7 DVDD (power) "Digital supply voltage", 8 ~{CS} (in) "Chip select. When C\S\ is high, SDO is in high-impedance state, SDI is ignored, and SCLK is disabled to clock data but works as conversion clock source if programmed. The falling edge of C\S\ input resets the internal 4-bit (See Datasheet)", 9 A0 (in) "Analog signal inputs. Analog input signals applied to these terminals are internally multiplexed. The driving source impedance should be less than or equal to 1 kO for normal sampling. For larger source impedance, use the (See Datasheet)", 10 A1 (in) "Analog signal inputs. Analog input signals applied to these terminals are internally multiplexed. The driving source impedance should be less than or equal to 1 kO for normal sampling. For larger source impedance, use the (See Datasheet)", 11 A2 (in) "Analog signal inputs. Analog input signals applied to these terminals are internally multiplexed. The driving source impedance should be less than or equal to 1 kO for normal sampling. For larger source impedance, use the (See Datasheet)", 12 A3 (in) "Analog signal inputs. Analog input signals applied to these terminals are internally multiplexed. The driving source impedance should be less than or equal to 1 kO for normal sampling. For larger source impedance, use the (See Datasheet)", 13 A4 (in) "Analog signal inputs. Analog input signals applied to these terminals are internally multiplexed. The driving source impedance should be less than or equal to 1 kO for normal sampling. For larger source impedance, use the (See Datasheet)", 14 A5 (in) "Analog signal inputs. Analog input signals applied to these terminals are internally multiplexed. The driving source impedance should be less than or equal to 1 kO for normal sampling. For larger source impedance, use the (See Datasheet)", 15 A6 (in) "Analog signal inputs. Analog input signals applied to these terminals are internally multiplexed. The driving source impedance should be less than or equal to 1 kO for normal sampling. For larger source impedance, use the (See Datasheet)", 16 A7 (in) "Analog signal inputs. Analog input signals applied to these terminals are internally multiplexed. The driving source impedance should be less than or equal to 1 kO for normal sampling. For larger source impedance, use the (See Datasheet)", 17 AVDD (power) "Analog supply voltage", 18 AGND (power) "Analog ground return for the internal circuitry. Unless otherwise noted, all analog voltage measurements are with respect to AGND.", 19 REFP (in) "External positive reference input. When an external reference is used, the range of maximum input voltage is determined by the difference between the voltage applied to this terminal and to the REFM terminal. Always install (See Datasheet)", 20 REFM (in) "External low reference input. Connect REFM to AGND.", 21 BGAP "Internal bandgap compensation pin. Install compensation capacitors between BGAP and AGND.0.1 uF for external reference; 10 uF in parallel with 0.1 uF for internal reference.", 22 AGND (power) "Analog ground return for the internal circuitry. Unless otherwise noted, all analog voltage measurements are with respect to AGND.", 23 AVDD (power) "Analog supply voltage", 24 ~{CSTART} (in) "External sampling trigger signal, which initiates the sampling from a selected analog input channel when the device works in extended sampling mode (asynchronous sampling). A high-to-low transition starts the sampling of the (See Datasheet)"

## TLC3548IPWG4
designator U?
14-Bit, 5 V, 200 kSPS, 8-Channel Unipolar ADC, -40 to 85 degC, 24-pin SOP (PW24), Green (RoHS & no Sb/Br); Manufacturer: Texas Instruments; PartNumber: TLC3548IPWG4; # Input Channels: 8; Analog Voltage AV/DD(Max)(V): 5.5; Analog Voltage AV/DD(Min)(V): 4.5; Architecture: SAR; Digital Supply(Min)(V): 2.7; ENOB(Bits): 13.1; INL(Max)(+/-LSB): 1; Interface: Serial SPI; Resolution(Bits): 14; Sample Rate (max)(SPS): 200k; SFDR(dB): 97; SINAD(dB): 80.8; SNR(dB): 81; SubFamily: Precision ADC (<=10MSPS); DatasheetVersion: SLAS266C; PackageVersion: 4040064-6/G, 02/2011; PackageReference: PW24; PackageDescription: 24-Pin Plastic Small Outline, Body 7.8 x 4.4 mm, Pitch 0.65 mm; Supplier 1: Digi-Key; Supplier Part Number 1: TLC0838IDWR-ND; Supplier 2: Mouser; Supplier Part Number 2: 595-TLC0838IDWR; Digital Supply(Max)(V): 5.5; Eco-Plan: Green (RoHS & no Sb/Br); Mounting Technology: Surface Mount; Code_JEDEC: MO-153; ComponentLink1Description: Manufacturer URL; ComponentLink1URL: http://www.ti.com/; ComponentLink2Description: Datasheet; ComponentLink2URL: http://www.ti.com/general/docs/lit/getliterature.tsp?genericPartNumber=TLC3548&fileType=pdf; ComponentLink3Description: Package Specification; ComponentLink3URL: http://www.ti.com/litv/pdf/mpds363
footprint TI-PW24_N (SOP, 24-Leads, Body 7.8x4.4mm, Pitch 0.65mm, IPC Medium Density)
footprint TI-PW24_L (SOP, 24-Leads, Body 7.8x4.4mm, Pitch 0.65mm, IPC High Density)
footprint TI-PW24_M (SOP, 24-Leads, Body 7.8x4.4mm, Pitch 0.65mm, IPC Low Density)
pins: 1 SCLK (in) "Serial clock input from the host processor to clock in the input from SDI and clock out the output via SDO. It can also be used as the conversion clock source when the external conversion clock is selected (see Table 2). (See Datasheet)", 2 FS (in) "Frame sync input from DSP. The rising edge of FS indicates the start of a serial data frame being transferred (coming into or being sent out of the device). If FS is low at the falling edge of C\S\, the rising edge of FS (See Datasheet)", 3 SDI (in) "Serial data input. The first 4 MSBs, ID[15:12], are decoded as one 4-bit command. All trailing bits,except for the CONFIGURE WRITE command, are filled with zeros. The CONFIGURE WRITE command requires additional 12-bit data. (See Datasheet)", 4 EOC(~{INT}) (out) "End of conversion (EOC) or interrupt to host processor (I\N\T\) EOC: used in conversion mode 00 only. EOC goes from high to low at the end of the sampling and remains low until the conversion is complete and data is ready.(See Datasheet)", 5 SDO (hiz) "The 3-state serial output for the A/D conversion result. All data bits are shifted out through SDO.SDO is in the high-impedance state when C\S\ is high. SDO is released after a C\S\ falling edge. The output format is MSB (See Datasheet)", 6 DGND (power) "Digital ground return for the internal circuitry", 7 DVDD (power) "Digital supply voltage", 8 ~{CS} (in) "Chip select. When C\S\ is high, SDO is in high-impedance state, SDI is ignored, and SCLK is disabled to clock data but works as conversion clock source if programmed. The falling edge of C\S\ input resets the internal 4-bit (See Datasheet)", 9 A0 (in) "Analog signal inputs. Analog input signals applied to these terminals are internally multiplexed. The driving source impedance should be less than or equal to 1 kO for normal sampling. For larger source impedance, use the (See Datasheet)", 10 A1 (in) "Analog signal inputs. Analog input signals applied to these terminals are internally multiplexed. The driving source impedance should be less than or equal to 1 kO for normal sampling. For larger source impedance, use the (See Datasheet)", 11 A2 (in) "Analog signal inputs. Analog input signals applied to these terminals are internally multiplexed. The driving source impedance should be less than or equal to 1 kO for normal sampling. For larger source impedance, use the (See Datasheet)", 12 A3 (in) "Analog signal inputs. Analog input signals applied to these terminals are internally multiplexed. The driving source impedance should be less than or equal to 1 kO for normal sampling. For larger source impedance, use the (See Datasheet)", 13 A4 (in) "Analog signal inputs. Analog input signals applied to these terminals are internally multiplexed. The driving source impedance should be less than or equal to 1 kO for normal sampling. For larger source impedance, use the (See Datasheet)", 14 A5 (in) "Analog signal inputs. Analog input signals applied to these terminals are internally multiplexed. The driving source impedance should be less than or equal to 1 kO for normal sampling. For larger source impedance, use the (See Datasheet)", 15 A6 (in) "Analog signal inputs. Analog input signals applied to these terminals are internally multiplexed. The driving source impedance should be less than or equal to 1 kO for normal sampling. For larger source impedance, use the (See Datasheet)", 16 A7 (in) "Analog signal inputs. Analog input signals applied to these terminals are internally multiplexed. The driving source impedance should be less than or equal to 1 kO for normal sampling. For larger source impedance, use the (See Datasheet)", 17 AVDD (power) "Analog supply voltage", 18 AGND (power) "Analog ground return for the internal circuitry. Unless otherwise noted, all analog voltage measurements are with respect to AGND.", 19 REFP (in) "External positive reference input. When an external reference is used, the range of maximum input voltage is determined by the difference between the voltage applied to this terminal and to the REFM terminal. Always install (See Datasheet)", 20 REFM (in) "External low reference input. Connect REFM to AGND.", 21 BGAP "Internal bandgap compensation pin. Install compensation capacitors between BGAP and AGND.0.1 uF for external reference; 10 uF in parallel with 0.1 uF for internal reference.", 22 AGND (power) "Analog ground return for the internal circuitry. Unless otherwise noted, all analog voltage measurements are with respect to AGND.", 23 AVDD (power) "Analog supply voltage", 24 ~{CSTART} (in) "External sampling trigger signal, which initiates the sampling from a selected analog input channel when the device works in extended sampling mode (asynchronous sampling). A high-to-low transition starts the sampling of the (See Datasheet)"